# Altium integrated library TI Power Management Supervisor and Reset IC.IntLib: 819 symbols (part 11 of 30)
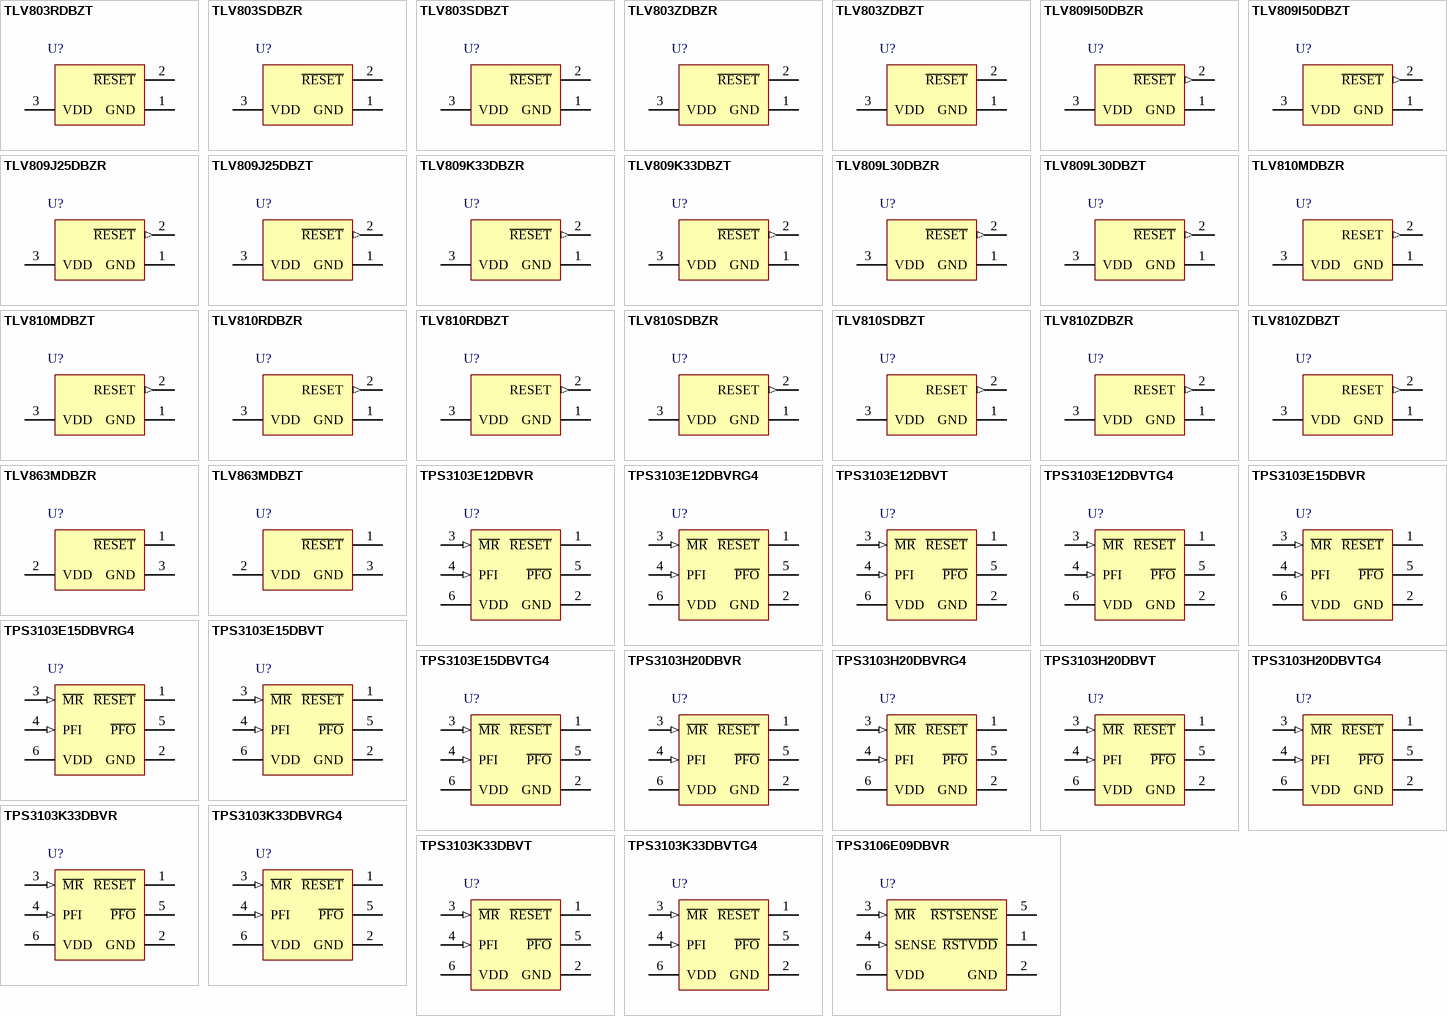
[diagram p31: symbols TLV803RDBZT to TPS3106E09DBVR]

## TPS3103E12DBVT
designator U?
Ultra-Low Supply Current / Supply-Voltage Supervisory Circuit, 1 Supply Monitored, -40 to 85 degC, 6-pin SOT-23 (DBV), Green (RoHS & no Sb/Br); Manufacturer: Texas Instruments; PartNumber: TPS3103E12DBVT; # of supplies monitored: 1; Iq(Typ)(uA): 1.2; Output Driver Type / Reset Output: Active-low, Open-drain; Rating: Catalog; Reset Threshold Accuracy(%): 0.75; SubFamily: Supervisor and Reset IC; Threshold Voltage 1 (typ)(Typ)(V): 1.142; Threshold Voltage 2 (typ)(Typ)(V): Adjustable; Time Delay(ms): 130; VCC(Max)(V): 3.3; VCC(Min)(V): 0.4; DatasheetVersion: SLVS363E; PackageVersion: revK, Mar-2006; PackageReference: DBV6; PackageDescription: 6-Pin Plastic Small-Outline Package, 2.9 x 1.6 mm Body, 0.95 mm Pitch, 2.8 mm Lead Span; Supplier 1: Digi-Key; Supplier Part Number 1: 296-26930-2-ND; Supplier 2: Digi-Key; Supplier Part Number 2: 296-26930-1-ND; Supplier 3: Digi-Key; Supplier Part Number 3: 296-26930-6-ND; Supplier 4: Newark; Supplier Part Number 4: 77C0251; Supplier 5: Mouser; Supplier Part Number 5: 595-TPS3103E12DBVT; Mounting Technology: Surface Mount; Code_JEDEC: MO-178-AB*; ComponentLink1Description: Datasheet; ComponentLink1URL: http://www.ti.com/general/docs/lit/getliterature.tsp?genericPartNumber=TPS3103E12&fileType=pdf
footprint DBV6_N (SOT23, 6-Leads, Body 2.9x1.6mm, Pitch 0.95mm, Lead Span 2.8mm, IPC Medium Density)
footprint DBV6_L (SOT23, 6-Leads, Body 2.9x1.6mm, Pitch 0.95mm, Lead Span 2.8mm, IPC High Density)
footprint DBV6_M (SOT23, 6-Leads, Body 2.9x1.6mm, Pitch 0.95mm, Lead Span 2.8mm, IPC Low Density)
pins: 1 ~{RESET} (oc) "Active-low reset output. Either push-pull or open-drain output stage.", 2 GND (power), 3 ~{MR} (in) "Manual-reset input. Pull low to force a reset. R\E\S\E\T\ remains low as long as M\R\ is low and for the timeout period after M\R\ goes high. Leave unconnected or connect to VDD when unused.", 4 PFI (in) "Power-fail input compares to 0.551 V with no additional delay. Connect to VDD if not used.", 5 ~{PFO} (oc) "Power-fail output. Goes high when voltage at PFI rises above 0.551 V.", 6 VDD (power) "Supply voltage. Powers the device and monitors its own voltage."

## TPS3103E12DBVTG4
designator U?
Ultra-Low Supply Current / Supply-Voltage Supervisory Circuit, 1 Supply Monitored, -40 to 85 degC, 6-pin SOT-23 (DBV), Green (RoHS & no Sb/Br); Manufacturer: Texas Instruments; PartNumber: TPS3103E12DBVTG4; # of supplies monitored: 1; Iq(Typ)(uA): 1.2; Output Driver Type / Reset Output: Active-low, Open-drain; Rating: Catalog; Reset Threshold Accuracy(%): 0.75; SubFamily: Supervisor and Reset IC; Threshold Voltage 1 (typ)(Typ)(V): 1.142; Threshold Voltage 2 (typ)(Typ)(V): Adjustable; Time Delay(ms): 130; VCC(Max)(V): 3.3; VCC(Min)(V): 0.4; DatasheetVersion: SLVS363E; PackageVersion: revK, Mar-2006; PackageReference: DBV6; PackageDescription: 6-Pin Plastic Small-Outline Package, 2.9 x 1.6 mm Body, 0.95 mm Pitch, 2.8 mm Lead Span; Supplier 1: Digi-Key; Supplier Part Number 1: TPS3103E12DBVTG4-ND; Supplier 2: Newark; Supplier Part Number 2: 24K5885; Supplier 3: Mouser; Supplier Part Number 3: 595-TPS3103E12DBVTG4; Mounting Technology: Surface Mount; Code_JEDEC: MO-178-AB*; ComponentLink1Description: Datasheet; ComponentLink1URL: http://www.ti.com/general/docs/lit/getliterature.tsp?genericPartNumber=TPS3103E12&fileType=pdf
footprint DBV6_N (SOT23, 6-Leads, Body 2.9x1.6mm, Pitch 0.95mm, Lead Span 2.8mm, IPC Medium Density)
footprint DBV6_L (SOT23, 6-Leads, Body 2.9x1.6mm, Pitch 0.95mm, Lead Span 2.8mm, IPC High Density)
footprint DBV6_M (SOT23, 6-Leads, Body 2.9x1.6mm, Pitch 0.95mm, Lead Span 2.8mm, IPC Low Density)
pins: 1 ~{RESET} (oc) "Active-low reset output. Either push-pull or open-drain output stage.", 2 GND (power), 3 ~{MR} (in) "Manual-reset input. Pull low to force a reset. R\E\S\E\T\ remains low as long as M\R\ is low and for the timeout period after M\R\ goes high. Leave unconnected or connect to VDD when unused.", 4 PFI (in) "Power-fail input compares to 0.551 V with no additional delay. Connect to VDD if not used.", 5 ~{PFO} (oc) "Power-fail output. Goes high when voltage at PFI rises above 0.551 V.", 6 VDD (power) "Supply voltage. Powers the device and monitors its own voltage."

## TPS3103E15DBVR
designator U?
Ultra-Low Supply Current / Supply-Voltage Supervisory Circuit, 1 Supply Monitored, -40 to 85 degC, 6-pin SOT-23 (DBV), Green (RoHS & no Sb/Br); Manufacturer: Texas Instruments; PartNumber: TPS3103E15DBVR; # of supplies monitored: 1; Iq(Typ)(uA): 1.2; Output Driver Type / Reset Output: Active-low, Open-drain; Rating: Catalog; Reset Threshold Accuracy(%): 0.75; SubFamily: Supervisor and Reset IC; Threshold Voltage 1 (typ)(Typ)(V): 1.434; Threshold Voltage 2 (typ)(Typ)(V): Adjustable; Time Delay(ms): 130; VCC(Max)(V): 3.3; VCC(Min)(V): 0.4; DatasheetVersion: SLVS363E; PackageVersion: revK, Mar-2006; PackageReference: DBV6; PackageDescription: 6-Pin Plastic Small-Outline Package, 2.9 x 1.6 mm Body, 0.95 mm Pitch, 2.8 mm Lead Span; Supplier 1: Digi-Key; Supplier Part Number 1: 296-13394-2-ND; Supplier 2: Digi-Key; Supplier Part Number 2: 296-13394-1-ND; Supplier 3: Digi-Key; Supplier Part Number 3: 296-13394-6-ND; Supplier 4: Newark; Supplier Part Number 4: 77C0252; Supplier 5: Mouser; Supplier Part Number 5: 595-TPS3103E15DBVR; Mounting Technology: Surface Mount; Code_JEDEC: MO-178-AB*; ComponentLink1Description: Datasheet; ComponentLink1URL: http://www.ti.com/general/docs/lit/getliterature.tsp?genericPartNumber=TPS3103E15&fileType=pdf
footprint DBV6_N (SOT23, 6-Leads, Body 2.9x1.6mm, Pitch 0.95mm, Lead Span 2.8mm, IPC Medium Density)
footprint DBV6_L (SOT23, 6-Leads, Body 2.9x1.6mm, Pitch 0.95mm, Lead Span 2.8mm, IPC High Density)
footprint DBV6_M (SOT23, 6-Leads, Body 2.9x1.6mm, Pitch 0.95mm, Lead Span 2.8mm, IPC Low Density)
pins: 1 ~{RESET} (oc) "Active-low reset output. Either push-pull or open-drain output stage.", 2 GND (power), 3 ~{MR} (in) "Manual-reset input. Pull low to force a reset. R\E\S\E\T\ remains low as long as M\R\ is low and for the timeout period after M\R\ goes high. Leave unconnected or connect to VDD when unused.", 4 PFI (in) "Power-fail input compares to 0.551 V with no additional delay. Connect to VDD if not used.", 5 ~{PFO} (oc) "Power-fail output. Goes high when voltage at PFI rises above 0.551 V.", 6 VDD (power) "Supply voltage. Powers the device and monitors its own voltage."

## TPS3103E15DBVRG4
designator U?
Ultra-Low Supply Current / Supply-Voltage Supervisory Circuit, 1 Supply Monitored, -40 to 85 degC, 6-pin SOT-23 (DBV), Green (RoHS & no Sb/Br); Manufacturer: Texas Instruments; PartNumber: TPS3103E15DBVRG4; # of supplies monitored: 1; Iq(Typ)(uA): 1.2; Output Driver Type / Reset Output: Active-low, Open-drain; Rating: Catalog; Reset Threshold Accuracy(%): 0.75; SubFamily: Supervisor and Reset IC; Threshold Voltage 1 (typ)(Typ)(V): 1.434; Threshold Voltage 2 (typ)(Typ)(V): Adjustable; Time Delay(ms): 130; VCC(Max)(V): 3.3; VCC(Min)(V): 0.4; DatasheetVersion: SLVS363E; PackageVersion: revK, Mar-2006; PackageReference: DBV6; PackageDescription: 6-Pin Plastic Small-Outline Package, 2.9 x 1.6 mm Body, 0.95 mm Pitch, 2.8 mm Lead Span; Supplier 1: Digi-Key; Supplier Part Number 1: TPS3103E15DBVRG4-ND; Supplier 2: Newark; Supplier Part Number 2: 71J8085; Supplier 3: Mouser; Supplier Part Number 3: 595-TPS3103E15DBVRG4; Mounting Technology: Surface Mount; Code_JEDEC: MO-178-AB*; ComponentLink1Description: Datasheet; ComponentLink1URL: http://www.ti.com/general/docs/lit/getliterature.tsp?genericPartNumber=TPS3103E15&fileType=pdf
footprint DBV6_N (SOT23, 6-Leads, Body 2.9x1.6mm, Pitch 0.95mm, Lead Span 2.8mm, IPC Medium Density)
footprint DBV6_L (SOT23, 6-Leads, Body 2.9x1.6mm, Pitch 0.95mm, Lead Span 2.8mm, IPC High Density)
footprint DBV6_M (SOT23, 6-Leads, Body 2.9x1.6mm, Pitch 0.95mm, Lead Span 2.8mm, IPC Low Density)
pins: 1 ~{RESET} (oc) "Active-low reset output. Either push-pull or open-drain output stage.", 2 GND (power), 3 ~{MR} (in) "Manual-reset input. Pull low to force a reset. R\E\S\E\T\ remains low as long as M\R\ is low and for the timeout period after M\R\ goes high. Leave unconnected or connect to VDD when unused.", 4 PFI (in) "Power-fail input compares to 0.551 V with no additional delay. Connect to VDD if not used.", 5 ~{PFO} (oc) "Power-fail output. Goes high when voltage at PFI rises above 0.551 V.", 6 VDD (power) "Supply voltage. Powers the device and monitors its own voltage."

## TPS3103E15DBVT
designator U?
Ultra-Low Supply Current / Supply-Voltage Supervisory Circuit, 1 Supply Monitored, -40 to 85 degC, 6-pin SOT-23 (DBV), Green (RoHS & no Sb/Br); Manufacturer: Texas Instruments; PartNumber: TPS3103E15DBVT; # of supplies monitored: 1; Iq(Typ)(uA): 1.2; Output Driver Type / Reset Output: Active-low, Open-drain; Rating: Catalog; Reset Threshold Accuracy(%): 0.75; SubFamily: Supervisor and Reset IC; Threshold Voltage 1 (typ)(Typ)(V): 1.434; Threshold Voltage 2 (typ)(Typ)(V): Adjustable; Time Delay(ms): 130; VCC(Max)(V): 3.3; VCC(Min)(V): 0.4; DatasheetVersion: SLVS363E; PackageVersion: revK, Mar-2006; PackageReference: DBV6; PackageDescription: 6-Pin Plastic Small-Outline Package, 2.9 x 1.6 mm Body, 0.95 mm Pitch, 2.8 mm Lead Span; Supplier 1: Digi-Key; Supplier Part Number 1: 296-32468-2-ND; Supplier 2: Digi-Key; Supplier Part Number 2: 296-32468-1-ND; Supplier 3: Digi-Key; Supplier Part Number 3: 296-32468-6-ND; Supplier 4: Newark; Supplier Part Number 4: 77C0253; Supplier 5: Mouser; Supplier Part Number 5: 595-TPS3103E15DBVT; Mounting Technology: Surface Mount; Code_JEDEC: MO-178-AB*; ComponentLink1Description: Datasheet; ComponentLink1URL: http://www.ti.com/general/docs/lit/getliterature.tsp?genericPartNumber=TPS3103E15&fileType=pdf
footprint DBV6_N (SOT23, 6-Leads, Body 2.9x1.6mm, Pitch 0.95mm, Lead Span 2.8mm, IPC Medium Density)
footprint DBV6_L (SOT23, 6-Leads, Body 2.9x1.6mm, Pitch 0.95mm, Lead Span 2.8mm, IPC High Density)
footprint DBV6_M (SOT23, 6-Leads, Body 2.9x1.6mm, Pitch 0.95mm, Lead Span 2.8mm, IPC Low Density)
pins: 1 ~{RESET} (oc) "Active-low reset output. Either push-pull or open-drain output stage.", 2 GND (power), 3 ~{MR} (in) "Manual-reset input. Pull low to force a reset. R\E\S\E\T\ remains low as long as M\R\ is low and for the timeout period after M\R\ goes high. Leave unconnected or connect to VDD when unused.", 4 PFI (in) "Power-fail input compares to 0.551 V with no additional delay. Connect to VDD if not used.", 5 ~{PFO} (oc) "Power-fail output. Goes high when voltage at PFI rises above 0.551 V.", 6 VDD (power) "Supply voltage. Powers the device and monitors its own voltage."

## TPS3103E15DBVTG4
designator U?
Ultra-Low Supply Current / Supply-Voltage Supervisory Circuit, 1 Supply Monitored, -40 to 85 degC, 6-pin SOT-23 (DBV), Green (RoHS & no Sb/Br); Manufacturer: Texas Instruments; PartNumber: TPS3103E15DBVTG4; # of supplies monitored: 1; Iq(Typ)(uA): 1.2; Output Driver Type / Reset Output: Active-low, Open-drain; Rating: Catalog; Reset Threshold Accuracy(%): 0.75; SubFamily: Supervisor and Reset IC; Threshold Voltage 1 (typ)(Typ)(V): 1.434; Threshold Voltage 2 (typ)(Typ)(V): Adjustable; Time Delay(ms): 130; VCC(Max)(V): 3.3; VCC(Min)(V): 0.4; DatasheetVersion: SLVS363E; PackageVersion: revK, Mar-2006; PackageReference: DBV6; PackageDescription: 6-Pin Plastic Small-Outline Package, 2.9 x 1.6 mm Body, 0.95 mm Pitch, 2.8 mm Lead Span; Supplier 1: Digi-Key; Supplier Part Number 1: TPS3103E15DBVTG4-ND; Supplier 2: Newark; Supplier Part Number 2: 54K1609; Supplier 3: Mouser; Supplier Part Number 3: 595-TPS3103E15DBVTG4; Mounting Technology: Surface Mount; Code_JEDEC: MO-178-AB*; ComponentLink1Description: Datasheet; ComponentLink1URL: http://www.ti.com/general/docs/lit/getliterature.tsp?genericPartNumber=TPS3103E15&fileType=pdf
footprint DBV6_N (SOT23, 6-Leads, Body 2.9x1.6mm, Pitch 0.95mm, Lead Span 2.8mm, IPC Medium Density)
footprint DBV6_L (SOT23, 6-Leads, Body 2.9x1.6mm, Pitch 0.95mm, Lead Span 2.8mm, IPC High Density)
footprint DBV6_M (SOT23, 6-Leads, Body 2.9x1.6mm, Pitch 0.95mm, Lead Span 2.8mm, IPC Low Density)
pins: 1 ~{RESET} (oc) "Active-low reset output. Either push-pull or open-drain output stage.", 2 GND (power), 3 ~{MR} (in) "Manual-reset input. Pull low to force a reset. R\E\S\E\T\ remains low as long as M\R\ is low and for the timeout period after M\R\ goes high. Leave unconnected or connect to VDD when unused.", 4 PFI (in) "Power-fail input compares to 0.551 V with no additional delay. Connect to VDD if not used.", 5 ~{PFO} (oc) "Power-fail output. Goes high when voltage at PFI rises above 0.551 V.", 6 VDD (power) "Supply voltage. Powers the device and monitors its own voltage."

## TPS3103H20DBVR
designator U?
Ultra-Low Supply Current / Supply-Voltage Supervisory Circuit, 1 Supply Monitored, -40 to 85 degC, 6-pin SOT-23 (DBV), Green (RoHS & no Sb/Br); Manufacturer: Texas Instruments; PartNumber: TPS3103H20DBVR; # of supplies monitored: 1; Iq(Typ)(uA): 1.2; Output Driver Type / Reset Output: Active-low, Open-drain; Rating: Catalog; Reset Threshold Accuracy(%): 0.75; SubFamily: Supervisor and Reset IC; Threshold Voltage 1 (typ)(Typ)(V): 1.843; Threshold Voltage 2 (typ)(Typ)(V): Adjustable; Time Delay(ms): 130; VCC(Max)(V): 3.3; VCC(Min)(V): 0.4; DatasheetVersion: SLVS363E; PackageVersion: revK, Mar-2006; PackageReference: DBV6; PackageDescription: 6-Pin Plastic Small-Outline Package, 2.9 x 1.6 mm Body, 0.95 mm Pitch, 2.8 mm Lead Span; Supplier 1: Digi-Key; Supplier Part Number 1: 296-13395-2-ND; Supplier 2: Digi-Key; Supplier Part Number 2: 296-13395-1-ND; Supplier 3: Digi-Key; Supplier Part Number 3: 296-13395-6-ND; Supplier 4: Newark; Supplier Part Number 4: 77C0254; Supplier 5: Mouser; Supplier Part Number 5: 595-TPS3103H20DBVR; Mounting Technology: Surface Mount; Code_JEDEC: MO-178-AB*; ComponentLink1Description: Datasheet; ComponentLink1URL: http://www.ti.com/general/docs/lit/getliterature.tsp?genericPartNumber=TPS3103H20&fileType=pdf
footprint DBV6_N (SOT23, 6-Leads, Body 2.9x1.6mm, Pitch 0.95mm, Lead Span 2.8mm, IPC Medium Density)
footprint DBV6_L (SOT23, 6-Leads, Body 2.9x1.6mm, Pitch 0.95mm, Lead Span 2.8mm, IPC High Density)
footprint DBV6_M (SOT23, 6-Leads, Body 2.9x1.6mm, Pitch 0.95mm, Lead Span 2.8mm, IPC Low Density)
pins: 1 ~{RESET} (oc) "Active-low reset output. Either push-pull or open-drain output stage.", 2 GND (power), 3 ~{MR} (in) "Manual-reset input. Pull low to force a reset. R\E\S\E\T\ remains low as long as M\R\ is low and for the timeout period after M\R\ goes high. Leave unconnected or connect to VDD when unused.", 4 PFI (in) "Power-fail input compares to 0.551 V with no additional delay. Connect to VDD if not used.", 5 ~{PFO} (oc) "Power-fail output. Goes high when voltage at PFI rises above 0.551 V.", 6 VDD (power) "Supply voltage. Powers the device and monitors its own voltage."

## TPS3103H20DBVRG4
designator U?
Ultra-Low Supply Current / Supply-Voltage Supervisory Circuit, 1 Supply Monitored, -40 to 85 degC, 6-pin SOT-23 (DBV), Green (RoHS & no Sb/Br); Manufacturer: Texas Instruments; PartNumber: TPS3103H20DBVRG4; # of supplies monitored: 1; Iq(Typ)(uA): 1.2; Output Driver Type / Reset Output: Active-low, Open-drain; Rating: Catalog; Reset Threshold Accuracy(%): 0.75; SubFamily: Supervisor and Reset IC; Threshold Voltage 1 (typ)(Typ)(V): 1.843; Threshold Voltage 2 (typ)(Typ)(V): Adjustable; Time Delay(ms): 130; VCC(Max)(V): 3.3; VCC(Min)(V): 0.4; DatasheetVersion: SLVS363E; PackageVersion: revK, Mar-2006; PackageReference: DBV6; PackageDescription: 6-Pin Plastic Small-Outline Package, 2.9 x 1.6 mm Body, 0.95 mm Pitch, 2.8 mm Lead Span; Supplier 1: Digi-Key; Supplier Part Number 1: TPS3103H20DBVRG4-ND; Supplier 2: Newark; Supplier Part Number 2: 71J8086; Supplier 3: Mouser; Supplier Part Number 3: 595-TPS3103H20DBVRG4; Mounting Technology: Surface Mount; Code_JEDEC: MO-178-AB*; ComponentLink1Description: Datasheet; ComponentLink1URL: http://www.ti.com/general/docs/lit/getliterature.tsp?genericPartNumber=TPS3103H20&fileType=pdf
footprint DBV6_N (SOT23, 6-Leads, Body 2.9x1.6mm, Pitch 0.95mm, Lead Span 2.8mm, IPC Medium Density)
footprint DBV6_L (SOT23, 6-Leads, Body 2.9x1.6mm, Pitch 0.95mm, Lead Span 2.8mm, IPC High Density)
footprint DBV6_M (SOT23, 6-Leads, Body 2.9x1.6mm, Pitch 0.95mm, Lead Span 2.8mm, IPC Low Density)
pins: 1 ~{RESET} (oc) "Active-low reset output. Either push-pull or open-drain output stage.", 2 GND (power), 3 ~{MR} (in) "Manual-reset input. Pull low to force a reset. R\E\S\E\T\ remains low as long as M\R\ is low and for the timeout period after M\R\ goes high. Leave unconnected or connect to VDD when unused.", 4 PFI (in) "Power-fail input compares to 0.551 V with no additional delay. Connect to VDD if not used.", 5 ~{PFO} (oc) "Power-fail output. Goes high when voltage at PFI rises above 0.551 V.", 6 VDD (power) "Supply voltage. Powers the device and monitors its own voltage."

## TPS3103H20DBVT
designator U?
Ultra-Low Supply Current / Supply-Voltage Supervisory Circuit, 1 Supply Monitored, -40 to 85 degC, 6-pin SOT-23 (DBV), Green (RoHS & no Sb/Br); Manufacturer: Texas Instruments; PartNumber: TPS3103H20DBVT; # of supplies monitored: 1; Iq(Typ)(uA): 1.2; Output Driver Type / Reset Output: Active-low, Open-drain; Rating: Catalog; Reset Threshold Accuracy(%): 0.75; SubFamily: Supervisor and Reset IC; Threshold Voltage 1 (typ)(Typ)(V): 1.843; Threshold Voltage 2 (typ)(Typ)(V): Adjustable; Time Delay(ms): 130; VCC(Max)(V): 3.3; VCC(Min)(V): 0.4; DatasheetVersion: SLVS363E; PackageVersion: revK, Mar-2006; PackageReference: DBV6; PackageDescription: 6-Pin Plastic Small-Outline Package, 2.9 x 1.6 mm Body, 0.95 mm Pitch, 2.8 mm Lead Span; Supplier 1: Digi-Key; Supplier Part Number 1: 296-32469-2-ND; Supplier 2: Digi-Key; Supplier Part Number 2: 296-32469-1-ND; Supplier 3: Digi-Key; Supplier Part Number 3: 296-32469-6-ND; Supplier 4: Newark; Supplier Part Number 4: 77C0255; Supplier 5: Mouser; Supplier Part Number 5: 595-TPS3103H20DBVT; Mounting Technology: Surface Mount; Code_JEDEC: MO-178-AB*; ComponentLink1Description: Datasheet; ComponentLink1URL: http://www.ti.com/general/docs/lit/getliterature.tsp?genericPartNumber=TPS3103H20&fileType=pdf
footprint DBV6_N (SOT23, 6-Leads, Body 2.9x1.6mm, Pitch 0.95mm, Lead Span 2.8mm, IPC Medium Density)
footprint DBV6_L (SOT23, 6-Leads, Body 2.9x1.6mm, Pitch 0.95mm, Lead Span 2.8mm, IPC High Density)
footprint DBV6_M (SOT23, 6-Leads, Body 2.9x1.6mm, Pitch 0.95mm, Lead Span 2.8mm, IPC Low Density)
pins: 1 ~{RESET} (oc) "Active-low reset output. Either push-pull or open-drain output stage.", 2 GND (power), 3 ~{MR} (in) "Manual-reset input. Pull low to force a reset. R\E\S\E\T\ remains low as long as M\R\ is low and for the timeout period after M\R\ goes high. Leave unconnected or connect to VDD when unused.", 4 PFI (in) "Power-fail input compares to 0.551 V with no additional delay. Connect to VDD if not used.", 5 ~{PFO} (oc) "Power-fail output. Goes high when voltage at PFI rises above 0.551 V.", 6 VDD (power) "Supply voltage. Powers the device and monitors its own voltage."

## TPS3103H20DBVTG4
designator U?
Ultra-Low Supply Current / Supply-Voltage Supervisory Circuit, 1 Supply Monitored, -40 to 85 degC, 6-pin SOT-23 (DBV), Green (RoHS & no Sb/Br); Manufacturer: Texas Instruments; PartNumber: TPS3103H20DBVTG4; # of supplies monitored: 1; Iq(Typ)(uA): 1.2; Output Driver Type / Reset Output: Active-low, Open-drain; Rating: Catalog; Reset Threshold Accuracy(%): 0.75; SubFamily: Supervisor and Reset IC; Threshold Voltage 1 (typ)(Typ)(V): 1.843; Threshold Voltage 2 (typ)(Typ)(V): Adjustable; Time Delay(ms): 130; VCC(Max)(V): 3.3; VCC(Min)(V): 0.4; DatasheetVersion: SLVS363E; PackageVersion: revK, Mar-2006; PackageReference: DBV6; PackageDescription: 6-Pin Plastic Small-Outline Package, 2.9 x 1.6 mm Body, 0.95 mm Pitch, 2.8 mm Lead Span; Supplier 1: Digi-Key; Supplier Part Number 1: TPS3103H20DBVTG4-ND; Supplier 2: Newark; Supplier Part Number 2: 24K5886; Supplier 3: Mouser; Supplier Part Number 3: 595-TPS3103H20DBVTG4; Mounting Technology: Surface Mount; Code_JEDEC: MO-178-AB*; ComponentLink1Description: Datasheet; ComponentLink1URL: http://www.ti.com/general/docs/lit/getliterature.tsp?genericPartNumber=TPS3103H20&fileType=pdf
footprint DBV6_N (SOT23, 6-Leads, Body 2.9x1.6mm, Pitch 0.95mm, Lead Span 2.8mm, IPC Medium Density)
footprint DBV6_L (SOT23, 6-Leads, Body 2.9x1.6mm, Pitch 0.95mm, Lead Span 2.8mm, IPC High Density)
footprint DBV6_M (SOT23, 6-Leads, Body 2.9x1.6mm, Pitch 0.95mm, Lead Span 2.8mm, IPC Low Density)
pins: 1 ~{RESET} (oc) "Active-low reset output. Either push-pull or open-drain output stage.", 2 GND (power), 3 ~{MR} (in) "Manual-reset input. Pull low to force a reset. R\E\S\E\T\ remains low as long as M\R\ is low and for the timeout period after M\R\ goes high. Leave unconnected or connect to VDD when unused.", 4 PFI (in) "Power-fail input compares to 0.551 V with no additional delay. Connect to VDD if not used.", 5 ~{PFO} (oc) "Power-fail output. Goes high when voltage at PFI rises above 0.551 V.", 6 VDD (power) "Supply voltage. Powers the device and monitors its own voltage."

## TPS3103K33DBVR
designator U?
Ultra-Low Supply Current / Supply-Voltage Supervisory Circuit, 1 Supply Monitored, -40 to 85 degC, 6-pin SOT-23 (DBV), Green (RoHS & no Sb/Br); Manufacturer: Texas Instruments; PartNumber: TPS3103K33DBVR; # of supplies monitored: 1; Iq(Typ)(uA): 1.2; Output Driver Type / Reset Output: Active-low, Open-drain; Rating: Catalog; Reset Threshold Accuracy(%): 0.75; SubFamily: Supervisor and Reset IC; Threshold Voltage 1 (typ)(Typ)(V): 2.941; Threshold Voltage 2 (typ)(Typ)(V): Adjustable; Time Delay(ms): 130; VCC(Max)(V): 3.3; VCC(Min)(V): 0.4; DatasheetVersion: SLVS363E; PackageVersion: revK, Mar-2006; PackageReference: DBV6; PackageDescription: 6-Pin Plastic Small-Outline Package, 2.9 x 1.6 mm Body, 0.95 mm Pitch, 2.8 mm Lead Span; Supplier 1: Digi-Key; Supplier Part Number 1: 296-13396-2-ND; Supplier 2: Digi-Key; Supplier Part Number 2: 296-13396-1-ND; Supplier 3: Digi-Key; Supplier Part Number 3: 296-13396-6-ND; Supplier 4: Farnell; Supplier Part Number 4: 1535753; Supplier 5: Newark; Supplier Part Number 5: 77C0256; Supplier 6: Mouser; Supplier Part Number 6: 595-TPS3103K33DBVR; Mounting Technology: Surface Mount; Code_JEDEC: MO-178-AB*; ComponentLink1Description: Datasheet; ComponentLink1URL: http://www.ti.com/general/docs/lit/getliterature.tsp?genericPartNumber=TPS3103K33&fileType=pdf
footprint DBV6_N (SOT23, 6-Leads, Body 2.9x1.6mm, Pitch 0.95mm, Lead Span 2.8mm, IPC Medium Density)
footprint DBV6_L (SOT23, 6-Leads, Body 2.9x1.6mm, Pitch 0.95mm, Lead Span 2.8mm, IPC High Density)
footprint DBV6_M (SOT23, 6-Leads, Body 2.9x1.6mm, Pitch 0.95mm, Lead Span 2.8mm, IPC Low Density)
pins: 1 ~{RESET} (oc) "Active-low reset output. Either push-pull or open-drain output stage.", 2 GND (power), 3 ~{MR} (in) "Manual-reset input. Pull low to force a reset. R\E\S\E\T\ remains low as long as M\R\ is low and for the timeout period after M\R\ goes high. Leave unconnected or connect to VDD when unused.", 4 PFI (in) "Power-fail input compares to 0.551 V with no additional delay. Connect to VDD if not used.", 5 ~{PFO} (oc) "Power-fail output. Goes high when voltage at PFI rises above 0.551 V.", 6 VDD (power) "Supply voltage. Powers the device and monitors its own voltage."

## TPS3103K33DBVRG4
designator U?
Ultra-Low Supply Current / Supply-Voltage Supervisory Circuit, 1 Supply Monitored, -40 to 85 degC, 6-pin SOT-23 (DBV), Green (RoHS & no Sb/Br); Manufacturer: Texas Instruments; PartNumber: TPS3103K33DBVRG4; # of supplies monitored: 1; Iq(Typ)(uA): 1.2; Output Driver Type / Reset Output: Active-low, Open-drain; Rating: Catalog; Reset Threshold Accuracy(%): 0.75; SubFamily: Supervisor and Reset IC; Threshold Voltage 1 (typ)(Typ)(V): 2.941; Threshold Voltage 2 (typ)(Typ)(V): Adjustable; Time Delay(ms): 130; VCC(Max)(V): 3.3; VCC(Min)(V): 0.4; DatasheetVersion: SLVS363E; PackageVersion: revK, Mar-2006; PackageReference: DBV6; PackageDescription: 6-Pin Plastic Small-Outline Package, 2.9 x 1.6 mm Body, 0.95 mm Pitch, 2.8 mm Lead Span; Supplier 1: Digi-Key; Supplier Part Number 1: TPS3103K33DBVRG4-ND; Supplier 2: Newark; Supplier Part Number 2: 71J8087; Supplier 3: Mouser; Supplier Part Number 3: 595-TPS3103K33DBVRG4; Mounting Technology: Surface Mount; Code_JEDEC: MO-178-AB*; ComponentLink1Description: Datasheet; ComponentLink1URL: http://www.ti.com/general/docs/lit/getliterature.tsp?genericPartNumber=TPS3103K33&fileType=pdf
footprint DBV6_N (SOT23, 6-Leads, Body 2.9x1.6mm, Pitch 0.95mm, Lead Span 2.8mm, IPC Medium Density)
footprint DBV6_L (SOT23, 6-Leads, Body 2.9x1.6mm, Pitch 0.95mm, Lead Span 2.8mm, IPC High Density)
footprint DBV6_M (SOT23, 6-Leads, Body 2.9x1.6mm, Pitch 0.95mm, Lead Span 2.8mm, IPC Low Density)
pins: 1 ~{RESET} (oc) "Active-low reset output. Either push-pull or open-drain output stage.", 2 GND (power), 3 ~{MR} (in) "Manual-reset input. Pull low to force a reset. R\E\S\E\T\ remains low as long as M\R\ is low and for the timeout period after M\R\ goes high. Leave unconnected or connect to VDD when unused.", 4 PFI (in) "Power-fail input compares to 0.551 V with no additional delay. Connect to VDD if not used.", 5 ~{PFO} (oc) "Power-fail output. Goes high when voltage at PFI rises above 0.551 V.", 6 VDD (power) "Supply voltage. Powers the device and monitors its own voltage."

## TPS3103K33DBVT
designator U?
Ultra-Low Supply Current / Supply-Voltage Supervisory Circuit, 1 Supply Monitored, -40 to 85 degC, 6-pin SOT-23 (DBV), Green (RoHS & no Sb/Br); Manufacturer: Texas Instruments; PartNumber: TPS3103K33DBVT; # of supplies monitored: 1; Iq(Typ)(uA): 1.2; Output Driver Type / Reset Output: Active-low, Open-drain; Rating: Catalog; Reset Threshold Accuracy(%): 0.75; SubFamily: Supervisor and Reset IC; Threshold Voltage 1 (typ)(Typ)(V): 2.941; Threshold Voltage 2 (typ)(Typ)(V): Adjustable; Time Delay(ms): 130; VCC(Max)(V): 3.3; VCC(Min)(V): 0.4; DatasheetVersion: SLVS363E; PackageVersion: revK, Mar-2006; PackageReference: DBV6; PackageDescription: 6-Pin Plastic Small-Outline Package, 2.9 x 1.6 mm Body, 0.95 mm Pitch, 2.8 mm Lead Span; Supplier 1: Digi-Key; Supplier Part Number 1: 296-26931-2-ND; Supplier 2: Digi-Key; Supplier Part Number 2: 296-26931-1-ND; Supplier 3: Digi-Key; Supplier Part Number 3: 296-26931-6-ND; Supplier 4: Farnell; Supplier Part Number 4: 8457018; Supplier 5: Newark; Supplier Part Number 5: 77C0257; Supplier 6: Mouser; Supplier Part Number 6: 595-TPS3103K33DBVT; Mounting Technology: Surface Mount; Code_JEDEC: MO-178-AB*; ComponentLink1Description: Datasheet; ComponentLink1URL: http://www.ti.com/general/docs/lit/getliterature.tsp?genericPartNumber=TPS3103K33&fileType=pdf
footprint DBV6_N (SOT23, 6-Leads, Body 2.9x1.6mm, Pitch 0.95mm, Lead Span 2.8mm, IPC Medium Density)
footprint DBV6_L (SOT23, 6-Leads, Body 2.9x1.6mm, Pitch 0.95mm, Lead Span 2.8mm, IPC High Density)
footprint DBV6_M (SOT23, 6-Leads, Body 2.9x1.6mm, Pitch 0.95mm, Lead Span 2.8mm, IPC Low Density)
pins: 1 ~{RESET} (oc) "Active-low reset output. Either push-pull or open-drain output stage.", 2 GND (power), 3 ~{MR} (in) "Manual-reset input. Pull low to force a reset. R\E\S\E\T\ remains low as long as M\R\ is low and for the timeout period after M\R\ goes high. Leave unconnected or connect to VDD when unused.", 4 PFI (in) "Power-fail input compares to 0.551 V with no additional delay. Connect to VDD if not used.", 5 ~{PFO} (oc) "Power-fail output. Goes high when voltage at PFI rises above 0.551 V.", 6 VDD (power) "Supply voltage. Powers the device and monitors its own voltage."

## TPS3103K33DBVTG4
designator U?
Ultra-Low Supply Current / Supply-Voltage Supervisory Circuit, 1 Supply Monitored, -40 to 85 degC, 6-pin SOT-23 (DBV), Green (RoHS & no Sb/Br); Manufacturer: Texas Instruments; PartNumber: TPS3103K33DBVTG4; # of supplies monitored: 1; Iq(Typ)(uA): 1.2; Output Driver Type / Reset Output: Active-low, Open-drain; Rating: Catalog; Reset Threshold Accuracy(%): 0.75; SubFamily: Supervisor and Reset IC; Threshold Voltage 1 (typ)(Typ)(V): 2.941; Threshold Voltage 2 (typ)(Typ)(V): Adjustable; Time Delay(ms): 130; VCC(Max)(V): 3.3; VCC(Min)(V): 0.4; DatasheetVersion: SLVS363E; PackageVersion: revK, Mar-2006; PackageReference: DBV6; PackageDescription: 6-Pin Plastic Small-Outline Package, 2.9 x 1.6 mm Body, 0.95 mm Pitch, 2.8 mm Lead Span; Supplier 1: Digi-Key; Supplier Part Number 1: TPS3103K33DBVTG4-ND; Supplier 2: Newark; Supplier Part Number 2: 71J8088; Supplier 3: Mouser; Supplier Part Number 3: 595-TPS3103K33DBVTG4; Mounting Technology: Surface Mount; Code_JEDEC: MO-178-AB*; ComponentLink1Description: Datasheet; ComponentLink1URL: http://www.ti.com/general/docs/lit/getliterature.tsp?genericPartNumber=TPS3103K33&fileType=pdf
footprint DBV6_N (SOT23, 6-Leads, Body 2.9x1.6mm, Pitch 0.95mm, Lead Span 2.8mm, IPC Medium Density)
footprint DBV6_L (SOT23, 6-Leads, Body 2.9x1.6mm, Pitch 0.95mm, Lead Span 2.8mm, IPC High Density)
footprint DBV6_M (SOT23, 6-Leads, Body 2.9x1.6mm, Pitch 0.95mm, Lead Span 2.8mm, IPC Low Density)
pins: 1 ~{RESET} (oc) "Active-low reset output. Either push-pull or open-drain output stage.", 2 GND (power), 3 ~{MR} (in) "Manual-reset input. Pull low to force a reset. R\E\S\E\T\ remains low as long as M\R\ is low and for the timeout period after M\R\ goes high. Leave unconnected or connect to VDD when unused.", 4 PFI (in) "Power-fail input compares to 0.551 V with no additional delay. Connect to VDD if not used.", 5 ~{PFO} (oc) "Power-fail output. Goes high when voltage at PFI rises above 0.551 V.", 6 VDD (power) "Supply voltage. Powers the device and monitors its own voltage."

## TPS3106E09DBVR
designator U?
Ultra-Low Supply Current / Supply-Voltage Supervisory Circuit, 2 Supply Monitored, -40 to 85 degC, 6-pin SOT-23 (DBV), Green (RoHS & no Sb/Br); Manufacturer: Texas Instruments; PartNumber: TPS3106E09DBVR; # of supplies monitored: 2; Iq(Typ)(uA): 1.2; Output Driver Type / Reset Output: Active-low, Open-drain; Rating: Catalog; Reset Threshold Accuracy(%): 0.75; SubFamily: Supervisor and Reset IC; Threshold Voltage 1 (typ)(Typ)(V): 0.86; Threshold Voltage 2 (typ)(Typ)(V): Adjustable; Time Delay(ms): 130; VCC(Max)(V): 3.3; VCC(Min)(V): 0.4; DatasheetVersion: SLVS363E; PackageVersion: revK, Mar-2006; PackageReference: DBV6; PackageDescription: 6-Pin Plastic Small-Outline Package, 2.9 x 1.6 mm Body, 0.95 mm Pitch, 2.8 mm Lead Span; Supplier 1: Digi-Key; Supplier Part Number 1: TPS3106E09DBVR-ND; Supplier 2: Newark; Supplier Part Number 2: 77C0258; Supplier 3: Mouser; Supplier Part Number 3: 595-TPS3106E09DBVR; Mounting Technology: Surface Mount; Code_JEDEC: MO-178-AB*; ComponentLink1Description: Datasheet; ComponentLink1URL: http://www.ti.com/general/docs/lit/getliterature.tsp?genericPartNumber=TPS3106E09&fileType=pdf
footprint DBV6_N (SOT23, 6-Leads, Body 2.9x1.6mm, Pitch 0.95mm, Lead Span 2.8mm, IPC Medium Density)
footprint DBV6_L (SOT23, 6-Leads, Body 2.9x1.6mm, Pitch 0.95mm, Lead Span 2.8mm, IPC High Density)
footprint DBV6_M (SOT23, 6-Leads, Body 2.9x1.6mm, Pitch 0.95mm, Lead Span 2.8mm, IPC Low Density)
pins: 1 ~{RSTVDD} (oc) "Active-low reset output. Logic level at R\S\T\S\E\N\S\E\ only depends on the voltage at SENSE and the status of M\R\.", 2 GND (power), 3 ~{MR} (in) "Manual-reset input. Pull low to force a reset. R\E\S\E\T\ remains low as long as M\R\ is low and for the timeout period after M\R\ goes high. Leave unconnected or connect to VDD when unused.", 4 SENSE (in) "A reset will be asserted if the voltage at SENSE is lower than 0.551 V. Connect to VDD if unused.", 5 ~{RSTSENSE} (oc) "Active-low reset output. Logic level at R\S\T\S\E\N\S\E\ only depends on the voltage at SENSE and the status of M\R\.", 6 VDD (power) "Supply voltage. Powers the device and monitors its own voltage."

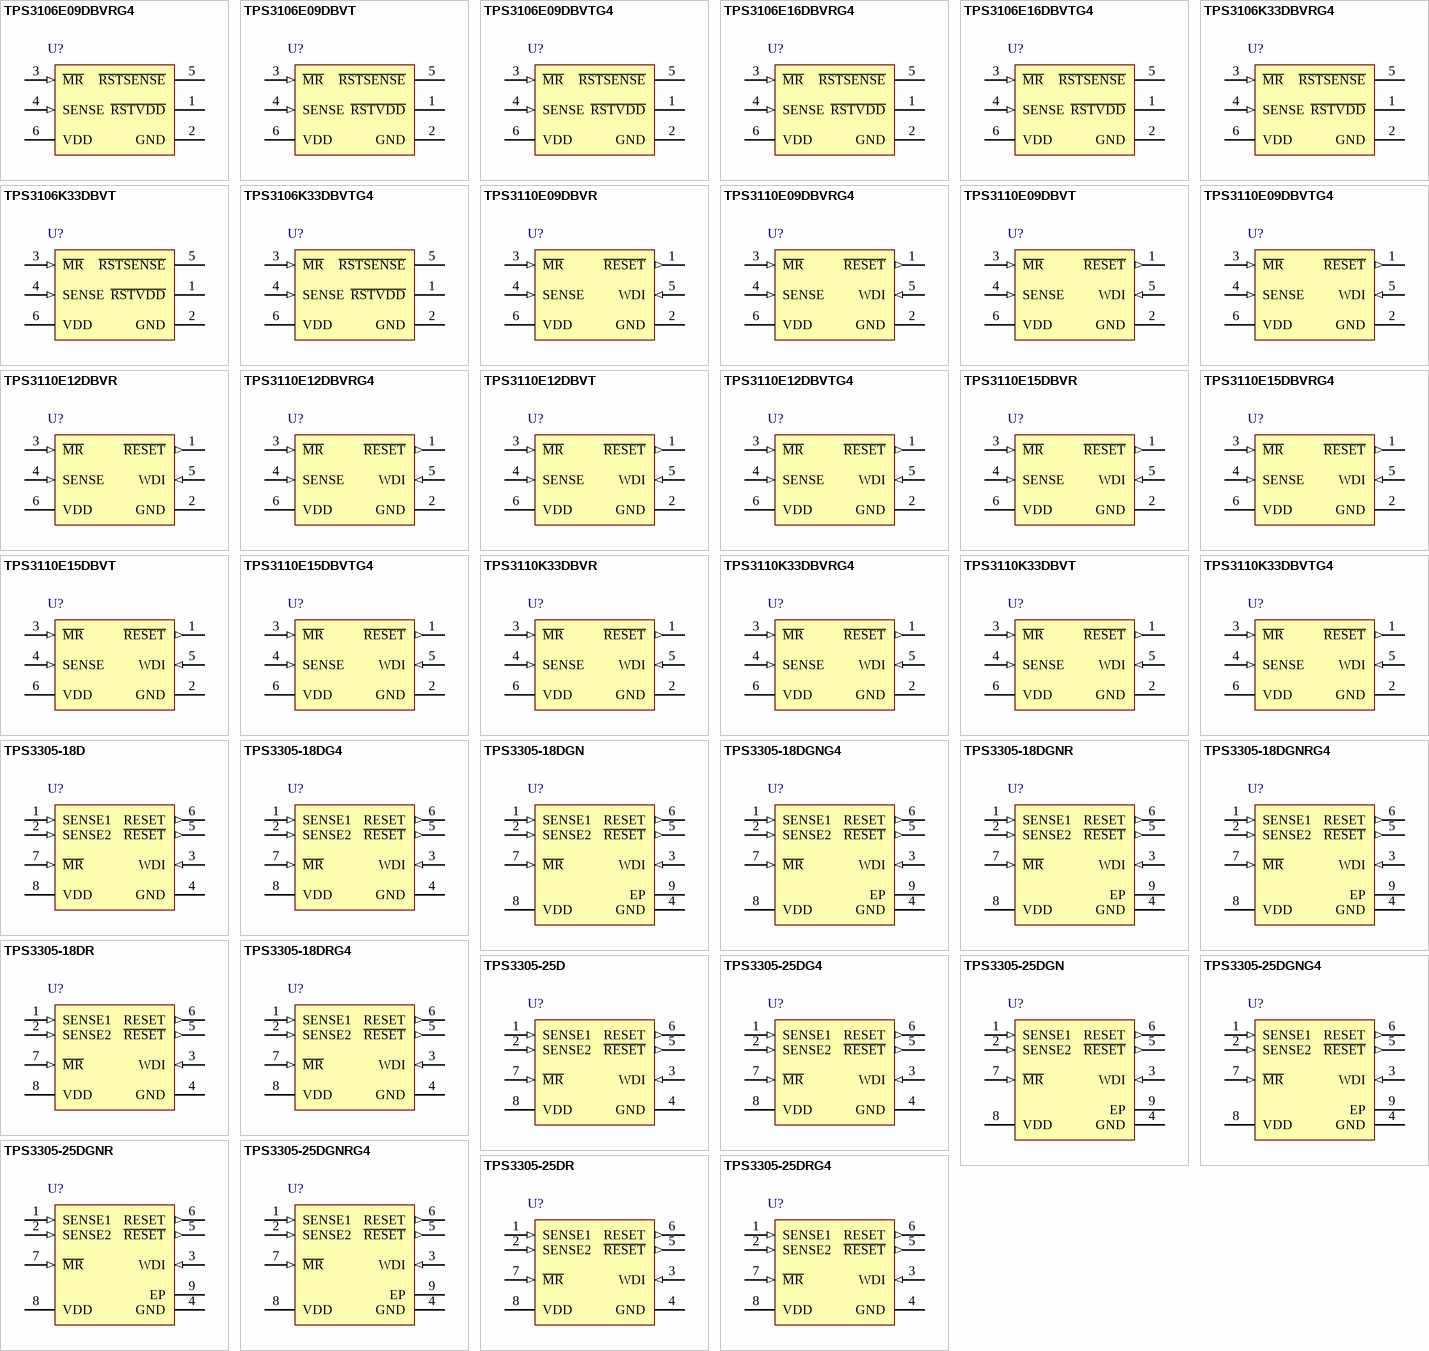
[diagram p9: symbols TPS3106E09DBVRG4 to TPS3305-25DRG4]

## TPS3106E09DBVRG4
designator U?
Ultra-Low Supply Current / Supply-Voltage Supervisory Circuit, 2 Supply Monitored, -40 to 85 degC, 6-pin SOT-23 (DBV), Green (RoHS & no Sb/Br); Manufacturer: Texas Instruments; PartNumber: TPS3106E09DBVRG4; # of supplies monitored: 2; Iq(Typ)(uA): 1.2; Output Driver Type / Reset Output: Active-low, Open-drain; Rating: Catalog; Reset Threshold Accuracy(%): 0.75; SubFamily: Supervisor and Reset IC; Threshold Voltage 1 (typ)(Typ)(V): 0.86; Threshold Voltage 2 (typ)(Typ)(V): Adjustable; Time Delay(ms): 130; VCC(Max)(V): 3.3; VCC(Min)(V): 0.4; DatasheetVersion: SLVS363E; PackageVersion: revK, Mar-2006; PackageReference: DBV6; PackageDescription: 6-Pin Plastic Small-Outline Package, 2.9 x 1.6 mm Body, 0.95 mm Pitch, 2.8 mm Lead Span; Supplier 1: Digi-Key; Supplier Part Number 1: TPS3106E09DBVRG4-ND; Supplier 2: Newark; Supplier Part Number 2: 24K5887; Supplier 3: Mouser; Supplier Part Number 3: 595-TPS3106E09DBVRG4; Mounting Technology: Surface Mount; Code_JEDEC: MO-178-AB*; ComponentLink1Description: Datasheet; ComponentLink1URL: http://www.ti.com/general/docs/lit/getliterature.tsp?genericPartNumber=TPS3106E09&fileType=pdf
footprint DBV6_N (SOT23, 6-Leads, Body 2.9x1.6mm, Pitch 0.95mm, Lead Span 2.8mm, IPC Medium Density)
footprint DBV6_L (SOT23, 6-Leads, Body 2.9x1.6mm, Pitch 0.95mm, Lead Span 2.8mm, IPC High Density)
footprint DBV6_M (SOT23, 6-Leads, Body 2.9x1.6mm, Pitch 0.95mm, Lead Span 2.8mm, IPC Low Density)
pins: 1 ~{RSTVDD} (oc) "Active-low reset output. Logic level at R\S\T\S\E\N\S\E\ only depends on the voltage at SENSE and the status of M\R\.", 2 GND (power), 3 ~{MR} (in) "Manual-reset input. Pull low to force a reset. R\E\S\E\T\ remains low as long as M\R\ is low and for the timeout period after M\R\ goes high. Leave unconnected or connect to VDD when unused.", 4 SENSE (in) "A reset will be asserted if the voltage at SENSE is lower than 0.551 V. Connect to VDD if unused.", 5 ~{RSTSENSE} (oc) "Active-low reset output. Logic level at R\S\T\S\E\N\S\E\ only depends on the voltage at SENSE and the status of M\R\.", 6 VDD (power) "Supply voltage. Powers the device and monitors its own voltage."

## TPS3106E09DBVT
designator U?
Ultra-Low Supply Current / Supply-Voltage Supervisory Circuit, 2 Supply Monitored, -40 to 85 degC, 6-pin SOT-23 (DBV), Green (RoHS & no Sb/Br); Manufacturer: Texas Instruments; PartNumber: TPS3106E09DBVT; # of supplies monitored: 2; Iq(Typ)(uA): 1.2; Output Driver Type / Reset Output: Active-low, Open-drain; Rating: Catalog; Reset Threshold Accuracy(%): 0.75; SubFamily: Supervisor and Reset IC; Threshold Voltage 1 (typ)(Typ)(V): 0.86; Threshold Voltage 2 (typ)(Typ)(V): Adjustable; Time Delay(ms): 130; VCC(Max)(V): 3.3; VCC(Min)(V): 0.4; DatasheetVersion: SLVS363E; PackageVersion: revK, Mar-2006; PackageReference: DBV6; PackageDescription: 6-Pin Plastic Small-Outline Package, 2.9 x 1.6 mm Body, 0.95 mm Pitch, 2.8 mm Lead Span; Supplier 1: Digi-Key; Supplier Part Number 1: 296-13397-2-ND; Supplier 2: Digi-Key; Supplier Part Number 2: 296-13397-1-ND; Supplier 3: Digi-Key; Supplier Part Number 3: 296-13397-6-ND; Supplier 4: Newark; Supplier Part Number 4: 77C0259; Supplier 5: Mouser; Supplier Part Number 5: 595-TPS3106E09DBVT; Mounting Technology: Surface Mount; Code_JEDEC: MO-178-AB*; ComponentLink1Description: Datasheet; ComponentLink1URL: http://www.ti.com/general/docs/lit/getliterature.tsp?genericPartNumber=TPS3106E09&fileType=pdf
footprint DBV6_N (SOT23, 6-Leads, Body 2.9x1.6mm, Pitch 0.95mm, Lead Span 2.8mm, IPC Medium Density)
footprint DBV6_L (SOT23, 6-Leads, Body 2.9x1.6mm, Pitch 0.95mm, Lead Span 2.8mm, IPC High Density)
footprint DBV6_M (SOT23, 6-Leads, Body 2.9x1.6mm, Pitch 0.95mm, Lead Span 2.8mm, IPC Low Density)
pins: 1 ~{RSTVDD} (oc) "Active-low reset output. Logic level at R\S\T\S\E\N\S\E\ only depends on the voltage at SENSE and the status of M\R\.", 2 GND (power), 3 ~{MR} (in) "Manual-reset input. Pull low to force a reset. R\E\S\E\T\ remains low as long as M\R\ is low and for the timeout period after M\R\ goes high. Leave unconnected or connect to VDD when unused.", 4 SENSE (in) "A reset will be asserted if the voltage at SENSE is lower than 0.551 V. Connect to VDD if unused.", 5 ~{RSTSENSE} (oc) "Active-low reset output. Logic level at R\S\T\S\E\N\S\E\ only depends on the voltage at SENSE and the status of M\R\.", 6 VDD (power) "Supply voltage. Powers the device and monitors its own voltage."

## TPS3106E09DBVTG4
designator U?
Ultra-Low Supply Current / Supply-Voltage Supervisory Circuit, 2 Supply Monitored, -40 to 85 degC, 6-pin SOT-23 (DBV), Green (RoHS & no Sb/Br); Manufacturer: Texas Instruments; PartNumber: TPS3106E09DBVTG4; # of supplies monitored: 2; Iq(Typ)(uA): 1.2; Output Driver Type / Reset Output: Active-low, Open-drain; Rating: Catalog; Reset Threshold Accuracy(%): 0.75; SubFamily: Supervisor and Reset IC; Threshold Voltage 1 (typ)(Typ)(V): 0.86; Threshold Voltage 2 (typ)(Typ)(V): Adjustable; Time Delay(ms): 130; VCC(Max)(V): 3.3; VCC(Min)(V): 0.4; DatasheetVersion: SLVS363E; PackageVersion: revK, Mar-2006; PackageReference: DBV6; PackageDescription: 6-Pin Plastic Small-Outline Package, 2.9 x 1.6 mm Body, 0.95 mm Pitch, 2.8 mm Lead Span; Supplier 1: Digi-Key; Supplier Part Number 1: TPS3106E09DBVTG4-ND; Supplier 2: Newark; Supplier Part Number 2: 24K5888; Supplier 3: Mouser; Supplier Part Number 3: 595-TPS3106E09DBVTG4; Mounting Technology: Surface Mount; Code_JEDEC: MO-178-AB*; ComponentLink1Description: Datasheet; ComponentLink1URL: http://www.ti.com/general/docs/lit/getliterature.tsp?genericPartNumber=TPS3106E09&fileType=pdf
footprint DBV6_N (SOT23, 6-Leads, Body 2.9x1.6mm, Pitch 0.95mm, Lead Span 2.8mm, IPC Medium Density)
footprint DBV6_L (SOT23, 6-Leads, Body 2.9x1.6mm, Pitch 0.95mm, Lead Span 2.8mm, IPC High Density)
footprint DBV6_M (SOT23, 6-Leads, Body 2.9x1.6mm, Pitch 0.95mm, Lead Span 2.8mm, IPC Low Density)
pins: 1 ~{RSTVDD} (oc) "Active-low reset output. Logic level at R\S\T\S\E\N\S\E\ only depends on the voltage at SENSE and the status of M\R\.", 2 GND (power), 3 ~{MR} (in) "Manual-reset input. Pull low to force a reset. R\E\S\E\T\ remains low as long as M\R\ is low and for the timeout period after M\R\ goes high. Leave unconnected or connect to VDD when unused.", 4 SENSE (in) "A reset will be asserted if the voltage at SENSE is lower than 0.551 V. Connect to VDD if unused.", 5 ~{RSTSENSE} (oc) "Active-low reset output. Logic level at R\S\T\S\E\N\S\E\ only depends on the voltage at SENSE and the status of M\R\.", 6 VDD (power) "Supply voltage. Powers the device and monitors its own voltage."

## TPS3106E16DBVRG4
designator U?
Ultra-Low Supply Current / Supply-Voltage Supervisory Circuit, 2 Supply Monitored, -40 to 85 degC, 6-pin SOT-23 (DBV), Green (RoHS & no Sb/Br); Manufacturer: Texas Instruments; PartNumber: TPS3106E16DBVRG4; # of supplies monitored: 2; Iq(Typ)(uA): 1.2; Output Driver Type / Reset Output: Active-low, Open-drain; Rating: Catalog; Reset Threshold Accuracy(%): 0.75; SubFamily: Supervisor and Reset IC; Threshold Voltage 1 (typ)(Typ)(V): 1.523; Threshold Voltage 2 (typ)(Typ)(V): Adjustable; Time Delay(ms): 130; VCC(Max)(V): 3.3; VCC(Min)(V): 0.4; DatasheetVersion: SLVS363E; PackageVersion: revK, Mar-2006; PackageReference: DBV6; PackageDescription: 6-Pin Plastic Small-Outline Package, 2.9 x 1.6 mm Body, 0.95 mm Pitch, 2.8 mm Lead Span; Supplier 1: Digi-Key; Supplier Part Number 1: TPS3106E16DBVRG4-ND; Supplier 2: Newark; Supplier Part Number 2: 71J8089; Supplier 3: Mouser; Supplier Part Number 3: 595-TPS3106E16DBVRG4; Mounting Technology: Surface Mount; Code_JEDEC: MO-178-AB*; ComponentLink1Description: Datasheet; ComponentLink1URL: http://www.ti.com/general/docs/lit/getliterature.tsp?genericPartNumber=TPS3106E16&fileType=pdf
footprint DBV6_N (SOT23, 6-Leads, Body 2.9x1.6mm, Pitch 0.95mm, Lead Span 2.8mm, IPC Medium Density)
footprint DBV6_L (SOT23, 6-Leads, Body 2.9x1.6mm, Pitch 0.95mm, Lead Span 2.8mm, IPC High Density)
footprint DBV6_M (SOT23, 6-Leads, Body 2.9x1.6mm, Pitch 0.95mm, Lead Span 2.8mm, IPC Low Density)
pins: 1 ~{RSTVDD} (oc) "Active-low reset output. Logic level at R\S\T\V\D\D\ only depends on the voltage at VDD and the status of M\R\", 2 GND (power), 3 ~{MR} (in) "Manual-reset input. Pull low to force a reset. R\E\S\E\T\ remains low as long as M\R\ is low and for the timeout period after M\R\ goes high. Leave unconnected or connect to VDD when unused.", 4 SENSE (in) "A reset will be asserted if the voltage at SENSE is lower than 0.551 V. Connect to VDD if unused.", 5 ~{RSTSENSE} (oc) "Active-low reset output. Logic level at R\S\T\S\E\N\S\E\ only depends on the voltage at SENSE and the status of M\R\.", 6 VDD (power) "Supply voltage. Powers the device and monitors its own voltage."

## TPS3106E16DBVTG4
designator U?
Ultra-Low Supply Current / Supply-Voltage Supervisory Circuit, 2 Supply Monitored, -40 to 85 degC, 6-pin SOT-23 (DBV), Green (RoHS & no Sb/Br); Manufacturer: Texas Instruments; PartNumber: TPS3106E16DBVTG4; # of supplies monitored: 2; Iq(Typ)(uA): 1.2; Output Driver Type / Reset Output: Active-low, Open-drain; Rating: Catalog; Reset Threshold Accuracy(%): 0.75; SubFamily: Supervisor and Reset IC; Threshold Voltage 1 (typ)(Typ)(V): 1.523; Threshold Voltage 2 (typ)(Typ)(V): Adjustable; Time Delay(ms): 130; VCC(Max)(V): 3.3; VCC(Min)(V): 0.4; DatasheetVersion: SLVS363E; PackageVersion: revK, Mar-2006; PackageReference: DBV6; PackageDescription: 6-Pin Plastic Small-Outline Package, 2.9 x 1.6 mm Body, 0.95 mm Pitch, 2.8 mm Lead Span; Supplier 1: Digi-Key; Supplier Part Number 1: TPS3106E16DBVTG4-ND; Supplier 2: Newark; Supplier Part Number 2: 66K4516; Supplier 3: Mouser; Supplier Part Number 3: 595-TPS3106E16DBVTG4; Mounting Technology: Surface Mount; Code_JEDEC: MO-178-AB*; ComponentLink1Description: Datasheet; ComponentLink1URL: http://www.ti.com/general/docs/lit/getliterature.tsp?genericPartNumber=TPS3106E16&fileType=pdf
footprint DBV6_N (SOT23, 6-Leads, Body 2.9x1.6mm, Pitch 0.95mm, Lead Span 2.8mm, IPC Medium Density)
footprint DBV6_L (SOT23, 6-Leads, Body 2.9x1.6mm, Pitch 0.95mm, Lead Span 2.8mm, IPC High Density)
footprint DBV6_M (SOT23, 6-Leads, Body 2.9x1.6mm, Pitch 0.95mm, Lead Span 2.8mm, IPC Low Density)
pins: 1 ~{RSTVDD} (oc) "Active-low reset output. Logic level at R\S\T\V\D\D\ only depends on the voltage at VDD and the status of M\R\", 2 GND (power), 3 ~{MR} (in) "Manual-reset input. Pull low to force a reset. R\E\S\E\T\ remains low as long as M\R\ is low and for the timeout period after M\R\ goes high. Leave unconnected or connect to VDD when unused.", 4 SENSE (in) "A reset will be asserted if the voltage at SENSE is lower than 0.551 V. Connect to VDD if unused.", 5 ~{RSTSENSE} (oc) "Active-low reset output. Logic level at R\S\T\S\E\N\S\E\ only depends on the voltage at SENSE and the status of M\R\.", 6 VDD (power) "Supply voltage. Powers the device and monitors its own voltage."

## TPS3106K33DBVRG4
designator U?
Ultra Low-Supply Current / Supply-Voltage Supervisory Circuit, 2 Supply Monitored, -40 to 85 degC, 6-pin SOT-23 (DBV), Green (RoHS & no Sb/Br); Manufacturer: Texas Instruments; PartNumber: TPS3106K33DBVRG4; # of supplies monitored: 2; Iq(Typ)(uA): 1.2; Output Driver Type / Reset Output: Active-low, Open-drain; Rating: Catalog; Reset Threshold Accuracy(%): 0.75; SubFamily: Supervisor and Reset IC; Threshold Voltage 1 (typ)(Typ)(V): 2.941; Threshold Voltage 2 (typ)(Typ)(V): Adjustable; Time Delay(ms): 130; VCC(Max)(V): 3.3; VCC(Min)(V): 0.4; DatasheetVersion: SLVS363E; PackageVersion: revK, Mar-2006; PackageReference: DBV6; PackageDescription: 6-Pin Plastic Small-Outline Package, 2.9 x 1.6 mm Body, 0.95 mm Pitch, 2.8 mm Lead Span; Supplier 1: Digi-Key; Supplier Part Number 1: TPS3106K33DBVRG4-ND; Supplier 2: Newark; Supplier Part Number 2: 65J6890; Supplier 3: Mouser; Supplier Part Number 3: 595-TPS3106K33DBVRG4; Mounting Technology: Surface Mount; Code_JEDEC: MO-178-AB*; ComponentLink1Description: Datasheet; ComponentLink1URL: http://www.ti.com/general/docs/lit/getliterature.tsp?genericPartNumber=TPS3106K33&fileType=pdf
footprint DBV6_N (SOT23, 6-Leads, Body 2.9x1.6mm, Pitch 0.95mm, Lead Span 2.8mm, IPC Medium Density)
footprint DBV6_L (SOT23, 6-Leads, Body 2.9x1.6mm, Pitch 0.95mm, Lead Span 2.8mm, IPC High Density)
footprint DBV6_M (SOT23, 6-Leads, Body 2.9x1.6mm, Pitch 0.95mm, Lead Span 2.8mm, IPC Low Density)
pins: 1 ~{RSTVDD} (oc) "Active-low reset output. Logic level at R\S\T\V\D\D\ only depends on the voltage at VDD and the status of M\R\", 2 GND (power), 3 ~{MR} (in) "Manual-reset input. Pull low to force a reset. R\E\S\E\T\ remains low as long as M\R\ is low and for the timeout period after M\R\ goes high. Leave unconnected or connect to VDD when unused.", 4 SENSE (in) "A reset will be asserted if the voltage at SENSE is lower than 0.551 V. Connect to VDD if unused.", 5 ~{RSTSENSE} (oc) "Active-low reset output. Logic level at R\S\T\S\E\N\S\E\ only depends on the voltage at SENSE and the status of M\R\.", 6 VDD (power) "Supply voltage. Powers the device and monitors its own voltage."

## TPS3106K33DBVT
designator U?
Ultra Low-Supply Current / Supply-Voltage Supervisory Circuit, 2 Supply Monitored, -40 to 85 degC, 6-pin SOT-23 (DBV), Green (RoHS & no Sb/Br); Manufacturer: Texas Instruments; PartNumber: TPS3106K33DBVT; # of supplies monitored: 2; Iq(Typ)(uA): 1.2; Output Driver Type / Reset Output: Active-low, Open-drain; Rating: Catalog; Reset Threshold Accuracy(%): 0.75; SubFamily: Supervisor and Reset IC; Threshold Voltage 1 (typ)(Typ)(V): 2.941; Threshold Voltage 2 (typ)(Typ)(V): Adjustable; Time Delay(ms): 130; VCC(Max)(V): 3.3; VCC(Min)(V): 0.4; DatasheetVersion: SLVS363E; PackageVersion: revK, Mar-2006; PackageReference: DBV6; PackageDescription: 6-Pin Plastic Small-Outline Package, 2.9 x 1.6 mm Body, 0.95 mm Pitch, 2.8 mm Lead Span; Supplier 1: Digi-Key; Supplier Part Number 1: 296-17102-2-ND; Supplier 2: Digi-Key; Supplier Part Number 2: 296-17102-1-ND; Supplier 3: Digi-Key; Supplier Part Number 3: 296-17102-6-ND; Supplier 4: Farnell; Supplier Part Number 4: 8457034; Supplier 5: Newark; Supplier Part Number 5: 77C0263; Supplier 6: Mouser; Supplier Part Number 6: 595-TPS3106K33DBVT; Mounting Technology: Surface Mount; Code_JEDEC: MO-178-AB*; ComponentLink1Description: Datasheet; ComponentLink1URL: http://www.ti.com/general/docs/lit/getliterature.tsp?genericPartNumber=TPS3106K33&fileType=pdf
footprint DBV6_N (SOT23, 6-Leads, Body 2.9x1.6mm, Pitch 0.95mm, Lead Span 2.8mm, IPC Medium Density)
footprint DBV6_L (SOT23, 6-Leads, Body 2.9x1.6mm, Pitch 0.95mm, Lead Span 2.8mm, IPC High Density)
footprint DBV6_M (SOT23, 6-Leads, Body 2.9x1.6mm, Pitch 0.95mm, Lead Span 2.8mm, IPC Low Density)
pins: 1 ~{RSTVDD} (oc) "Active-low reset output. Logic level at R\S\T\V\D\D\ only depends on the voltage at VDD and the status of M\R\", 2 GND (power), 3 ~{MR} (in) "Manual-reset input. Pull low to force a reset. R\E\S\E\T\ remains low as long as M\R\ is low and for the timeout period after M\R\ goes high. Leave unconnected or connect to VDD when unused.", 4 SENSE (in) "A reset will be asserted if the voltage at SENSE is lower than 0.551 V. Connect to VDD if unused.", 5 ~{RSTSENSE} (oc) "Active-low reset output. Logic level at R\S\T\S\E\N\S\E\ only depends on the voltage at SENSE and the status of M\R\.", 6 VDD (power) "Supply voltage. Powers the device and monitors its own voltage."

## TPS3106K33DBVTG4
designator U?
Ultra Low-Supply Current / Supply-Voltage Supervisory Circuit, 2 Supply Monitored, -40 to 85 degC, 6-pin SOT-23 (DBV), Green (RoHS & no Sb/Br); Manufacturer: Texas Instruments; PartNumber: TPS3106K33DBVTG4; # of supplies monitored: 2; Iq(Typ)(uA): 1.2; Output Driver Type / Reset Output: Active-low, Open-drain; Rating: Catalog; Reset Threshold Accuracy(%): 0.75; SubFamily: Supervisor and Reset IC; Threshold Voltage 1 (typ)(Typ)(V): 2.941; Threshold Voltage 2 (typ)(Typ)(V): Adjustable; Time Delay(ms): 130; VCC(Max)(V): 3.3; VCC(Min)(V): 0.4; DatasheetVersion: SLVS363E; PackageVersion: revK, Mar-2006; PackageReference: DBV6; PackageDescription: 6-Pin Plastic Small-Outline Package, 2.9 x 1.6 mm Body, 0.95 mm Pitch, 2.8 mm Lead Span; Supplier 1: Digi-Key; Supplier Part Number 1: TPS3106K33DBVTG4-ND; Supplier 2: Newark; Supplier Part Number 2: 71J8090; Supplier 3: Mouser; Supplier Part Number 3: 595-TPS3106K33DBVTG4; Mounting Technology: Surface Mount; Code_JEDEC: MO-178-AB*; ComponentLink1Description: Datasheet; ComponentLink1URL: http://www.ti.com/general/docs/lit/getliterature.tsp?genericPartNumber=TPS3106K33&fileType=pdf
footprint DBV6_N (SOT23, 6-Leads, Body 2.9x1.6mm, Pitch 0.95mm, Lead Span 2.8mm, IPC Medium Density)
footprint DBV6_L (SOT23, 6-Leads, Body 2.9x1.6mm, Pitch 0.95mm, Lead Span 2.8mm, IPC High Density)
footprint DBV6_M (SOT23, 6-Leads, Body 2.9x1.6mm, Pitch 0.95mm, Lead Span 2.8mm, IPC Low Density)
pins: 1 ~{RSTVDD} (oc) "Active-low reset output. Logic level at R\S\T\V\D\D\ only depends on the voltage at VDD and the status of M\R\", 2 GND (power), 3 ~{MR} (in) "Manual-reset input. Pull low to force a reset. R\E\S\E\T\ remains low as long as M\R\ is low and for the timeout period after M\R\ goes high. Leave unconnected or connect to VDD when unused.", 4 SENSE (in) "A reset will be asserted if the voltage at SENSE is lower than 0.551 V. Connect to VDD if unused.", 5 ~{RSTSENSE} (oc) "Active-low reset output. Logic level at R\S\T\S\E\N\S\E\ only depends on the voltage at SENSE and the status of M\R\.", 6 VDD (power) "Supply voltage. Powers the device and monitors its own voltage."